# Altium footprint library ACTION_Component.PcbLib: 79 footprints (part 3 of 5)
Each footprint in its own frame and in the unit in brackets; x right, y up, seen from the top. Pads: shape width x height; smd on the part's side, far side on the other; paste and mask are expansions set on the pad; w line width, h text height; cw(c..) or ccw(c..) is an arc to the next point about the centre after c.
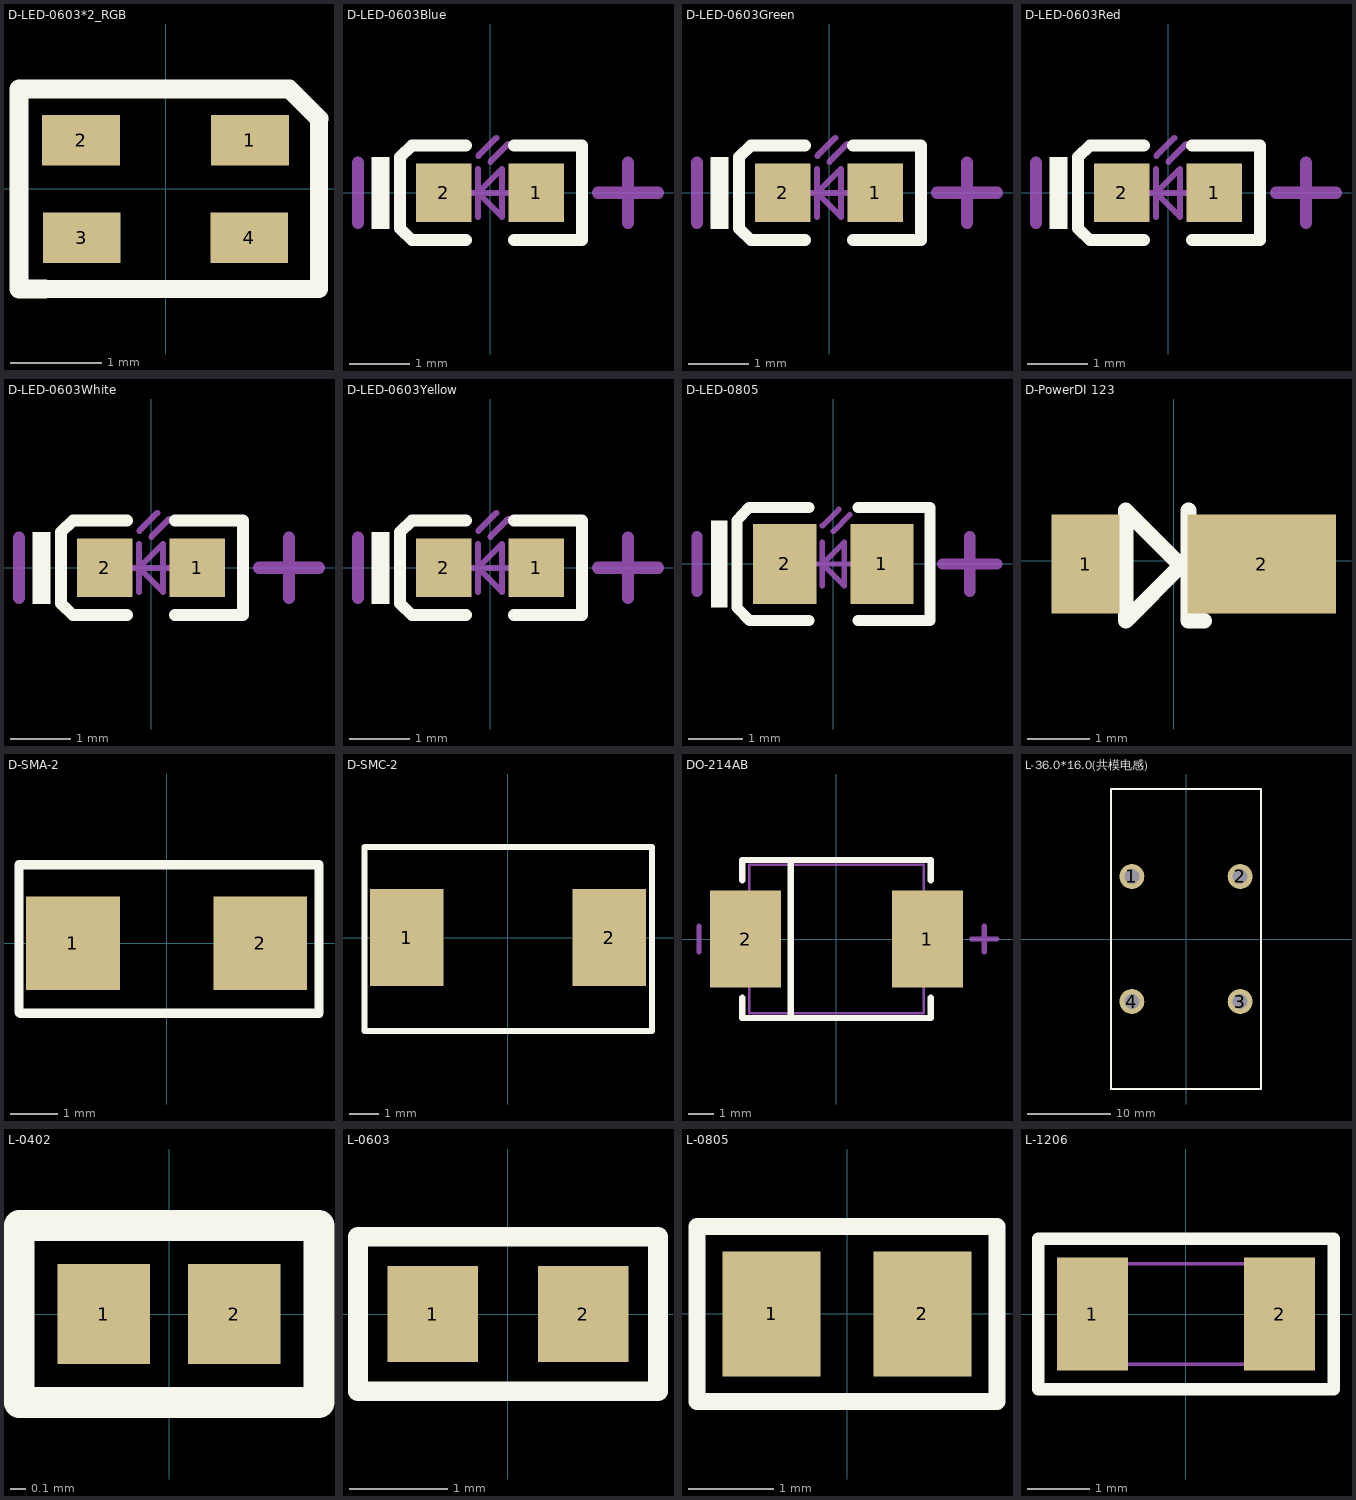
[diagram p2: the footprints below, top view; thin cyan lines are the x and y axes]

## D-LED-0603*2_RGB [mm]
pads (4):
  rect 0.85x0.55 smd: 1(0.922,0.533) 2(-0.922,0.533) 3(-0.914,-0.533) 4(0.914,-0.533)
Top Overlay:
  lines w0.2: -1.321,-1.092 1.676,-1.092 1.676,0.767
  lines w0.203: -1.321,-1.092 -1.6,-1.092 -1.6,1.092 1.351,1.092 1.676,0.767
3D body "User Library-LED_0603_R.STEP": height 0.6, standoff 0, extent -0.825,-0.914 0.775,-0.114
3D body "User Library-LED_0603_R.STEP": height 0.6, standoff 0, extent -0.851,0.102 0.749,0.902

## D-LED-0603Blue [mm]
pads (2):
  rect 0.93x0.98 smd: 1(0.77,0) 2(-0.77,0)
Top Overlay:
  rectangle: -1.975,-0.6 -1.675,0.6
  lines w0.2: -0.4,-0.79 -1.3,-0.79 -1.5,-0.597 -1.5,0.597 -1.3,0.79 -0.4,0.79 ; 0.4,-0.79 1.535,-0.79 1.535,0.79 0.4,0.79
Mechanical 13:
  lines w0.1: -0.4,0 0.4,0 ; -0.2,-0.4 -0.2,0.4 ; -0.195,0.617 0.105,0.917 ; 0.005,0.517 0.305,0.817 ; -0.2,0 0.2,0.4 0.2,-0.4 -0.2,0
Mechanical 15:
  lines w0.203: -2.2,-0.5 -2.2,0.5 ; 1.8,0 2.8,0 ; 2.3,-0.5 2.3,0.5
3D body "LED_0603_蓝.STEP": height 0.6, standoff 0, extent -0.8,-0.4 0.8,0.4

## D-LED-0603Green [mm]
pads (2):
  rect 0.93x0.98 smd: 1(0.77,0) 2(-0.77,0)
Top Overlay:
  rectangle: -1.975,-0.6 -1.675,0.6
  lines w0.2: -0.4,-0.79 -1.3,-0.79 -1.5,-0.597 -1.5,0.597 -1.3,0.79 -0.4,0.79 ; 0.4,-0.79 1.535,-0.79 1.535,0.79 0.4,0.79
Mechanical 13:
  lines w0.1: -0.4,0 0.4,0 ; -0.2,-0.4 -0.2,0.4 ; -0.195,0.617 0.105,0.917 ; 0.005,0.517 0.305,0.817 ; -0.2,0 0.2,-0.4 0.2,0.4 -0.2,0
Mechanical 15:
  lines w0.203: -2.2,-0.5 -2.2,0.5 ; 1.8,0 2.8,0 ; 2.3,-0.5 2.3,0.5
3D body "LED_0603_绿.STEP": height 0.6, standoff 0, extent -0.8,-0.4 0.8,0.4

## D-LED-0603Red [mm]
pads (2):
  rect 0.93x0.98 smd: 1(0.77,0) 2(-0.77,0)
Top Overlay:
  rectangle: -1.975,-0.6 -1.675,0.6
  lines w0.2: -0.4,-0.79 -1.3,-0.79 -1.5,-0.597 -1.5,0.597 -1.3,0.79 -0.4,0.79 ; 0.4,-0.79 1.535,-0.79 1.535,0.79 0.4,0.79
Mechanical 13:
  lines w0.1: -0.4,0 0.4,0 ; -0.2,-0.4 -0.2,0.4 ; -0.195,0.617 0.105,0.917 ; 0.005,0.517 0.305,0.817 ; -0.2,0 0.2,-0.4 0.2,0.4 -0.2,0
Mechanical 15:
  lines w0.203: -2.2,-0.5 -2.2,0.5 ; 1.8,0 2.8,0 ; 2.3,-0.5 2.3,0.5
3D body "User Library-LED_0603_R.STEP": height 0.6, standoff 0, extent -0.8,-0.4 0.8,0.4

## D-LED-0603White [mm]
pads (2):
  rect 0.93x0.98 smd: 1(0.77,0) 2(-0.77,0)
Top Overlay:
  rectangle: -1.975,-0.6 -1.675,0.6
  lines w0.2: -0.4,-0.79 -1.3,-0.79 -1.5,-0.597 -1.5,0.597 -1.3,0.79 -0.4,0.79 ; 0.4,-0.79 1.535,-0.79 1.535,0.79 0.4,0.79
Mechanical 13:
  lines w0.1: -0.4,0 0.4,0 ; -0.2,-0.4 -0.2,0.4 ; -0.195,0.617 0.105,0.917 ; 0.005,0.517 0.305,0.817 ; -0.2,0 0.2,0.4 0.2,-0.4 -0.2,0
Mechanical 15:
  lines w0.203: -2.2,-0.5 -2.2,0.5 ; 1.8,0 2.8,0 ; 2.3,-0.5 2.3,0.5
3D body "0603LED白.step": height 0.6, standoff 0, extent -0.81,-0.4 0.81,0.4

## D-LED-0603Yellow [mm]
pads (2):
  rect 0.93x0.98 smd: 1(0.77,0) 2(-0.77,0)
Top Overlay:
  rectangle: -1.975,-0.6 -1.675,0.6
  lines w0.2: -0.4,-0.79 -1.3,-0.79 -1.5,-0.597 -1.5,0.597 -1.3,0.79 -0.4,0.79 ; 0.4,-0.79 1.535,-0.79 1.535,0.79 0.4,0.79
Mechanical 13:
  lines w0.1: -0.4,0 0.4,0 ; -0.2,-0.4 -0.2,0.4 ; -0.195,0.617 0.105,0.917 ; 0.005,0.517 0.305,0.817 ; -0.2,0 0.2,0.4 0.2,-0.4 -0.2,0
Mechanical 15:
  lines w0.203: -2.2,-0.5 -2.2,0.5 ; 1.8,0 2.8,0 ; 2.3,-0.5 2.3,0.5
3D body "led0603黄.step": height 0.6, standoff 0, extent -0.81,-0.4 0.81,0.4

## D-LED-0805 [mm]
pads (2):
  rect 1.16x1.47 smd: 1(0.89,0) 2(-0.89,0)
Top Overlay:
  rectangle: -2.245,-0.8 -1.945,0.8
  lines w0.2: -0.45,-1.035 -1.535,-1.035 -1.77,-0.8 -1.77,0.8 -1.55,1.035 -0.45,1.035 ; 0.45,-1.035 1.77,-1.035 1.77,1.035 0.45,1.035
Mechanical 13:
  lines w0.1: -0.4,0 0.4,0 ; -0.2,-0.4 -0.2,0.4 ; -0.2,0.7 0.1,1 ; 0,0.6 0.3,0.9 ; -0.2,0 0.2,0.4 0.2,-0.4 -0.2,0
Mechanical 15:
  lines w0.203: -2.5,-0.5 -2.5,0.5 ; 2,0 3,0 ; 2.5,-0.5 2.5,0.5
3D body "User Library-led_0805.step": height 1.1, standoff 0, extent -1.01,-0.625 1.01,0.625

## D-PowerDI 123 [mm]
height 0.5
pads (2):
  rect 1.1x1.6 smd: 1(-1.422,-0.051)
  rect 2.4x1.6 smd: 2(1.422,-0.051)
Top Overlay:
  lines w0.254: 0.241,0.813 0.241,-0.965 0.495,-0.965 ; -0.775,-0.965 0.114,-0.076 -0.775,0.813 -0.775,-0.965
3D body "User Library-POWERDI-123.STEP": height 1.1, standoff 0.1, extent -1.62,-1.016 2.28,0.914

## D-SMA-2 [mm]
pads (2):
  rect 2x2 smd: 1(-2,0) 2(2,0)
Top Overlay:
  lines w0.2: -3.15,-1.473 -3.124,-1.499 3.251,-1.499 3.251,1.676 -3.15,1.676 -3.15,-1.473
3D body "DO214 SMA.STEP": height 2.41, standoff 0.13, extent -2.692,-1.295 2.794,1.499

## D-SMC-2 [mm]
pads (2):
  rect 2.5x3.3 smd: 1(-3.45,0) 2(3.45,0)
Top Overlay:
  lines w0.2: -4.877,-3.175 -4.877,-1.6 -4.877,3.073 4.902,3.073 4.902,-3.175 -4.877,-3.175
3D body "DO214 SMC.STEP": height 2.27, standoff -0.03, extent -3.899,-3.001 4.051,2.899

## DO-214AB [mil]
pads (2):
  rect 110x150 smd: 1(140.49,0) 2(-140.49,0)
Top Overlay:
  lines w10: -145.67,-90.55 -145.67,-122.05 145.67,-122.05 145.67,-90.55 ; -145.67,90.55 -145.67,122.05 145.67,122.05 145.67,90.55 ; -70.87,-122.05 -70.87,122.05
Mechanical 13:
  lines w3.94: -135.04,-114.96 -135.04,114.96 135.04,114.96 135.04,-114.96 -135.04,-114.96
Mechanical 15:
  lines w8: -212.6,-19.68 -212.6,19.69 ; 208.66,0 248.03,0 ; 228.35,-19.68 228.35,19.69
3D body "SW3dPS-DO-214AB SMC.STEP": height 89.47, standoff -1.18, extent -156.5,-116.13 156.5,116.15

## L-36.0*16.0(共模电感) [mm]
pads (4):
  round 3 hole 1.8: 1(-6.5,7.5) 2(6.5,7.5) 3(6.5,-7.5) 4(-6.5,-7.5)
Top Overlay:
  lines w0.254: -9,-18 -9,18 9,18 9,-18 -9,-18
3D body: height 30, standoff 0, extent -9.007,-18.034 9.017,17.983

## L-0402 [mm]
pads (2):
  rect 0.6x0.65 smd mask+0.051: 1(-0.425,0) 2(0.425,0)
Top Overlay:
  lines w0.2: -0.975,-0.575 0.975,-0.575 0.975,0.575 -0.975,0.575 -0.975,-0.575
3D body "L0402.STEP": height 0.36, standoff -0.01, extent -0.512,-0.262 0.538,0.263

## L-0603 [mm]
pads (2):
  rect 0.93x0.98 smd: 1(-0.77,0) 2(0.77,0)
Top Overlay:
  lines w0.2: -1.535,-0.79 -1.535,0.79 1.535,0.79 1.535,-0.79 -1.535,-0.79
3D body "L0603.STEP": height 0.46, standoff -0.01, extent -0.825,-0.412 0.825,0.413

## L-0805 [mm]
pads (2):
  rect 1.16x1.47 smd: 1(-0.89,0) 2(0.89,0)
Top Overlay:
  lines w0.2: -1.77,-1.035 1.77,-1.035 1.77,1.035 -1.77,1.035 -1.77,-1.035
3D body "L0805.STEP": height 0.6, standoff -0.02, extent -1.022,-0.637 1.028,0.638

## L-1206 [mm]
pads (2):
  rect 1.13x1.8 smd: 1(-1.49,0) 2(1.49,0)
Top Overlay:
  lines w0.2: -2.355,-1.2 2.355,-1.2 2.355,1.2 -2.355,1.2 -2.355,-1.2
Mechanical 13:
  lines w0.05: -1.6,-0.8 1.6,-0.8 1.6,0.8 -1.6,0.8 -1.6,-0.8
3D body "45987.stp": height 1.47, standoff -0.03, extent -1.6,-0.8 1.6,0.8